# EAGLE library part ATTINY45V-10SU (library ATTINY45V-10SU)
ATTINY45V-10SU, 8 bit AVR Microcontroller 10MHz 4kb Flash, 256B RAM, I2C SPI 8-Pin SOIC Source: Datasheet <https://datasheet.datasheetarchive.com/originals/distributors/Datasheets_SAMA/b7d776087f3438c2ffab22c1216558b5.pdf>
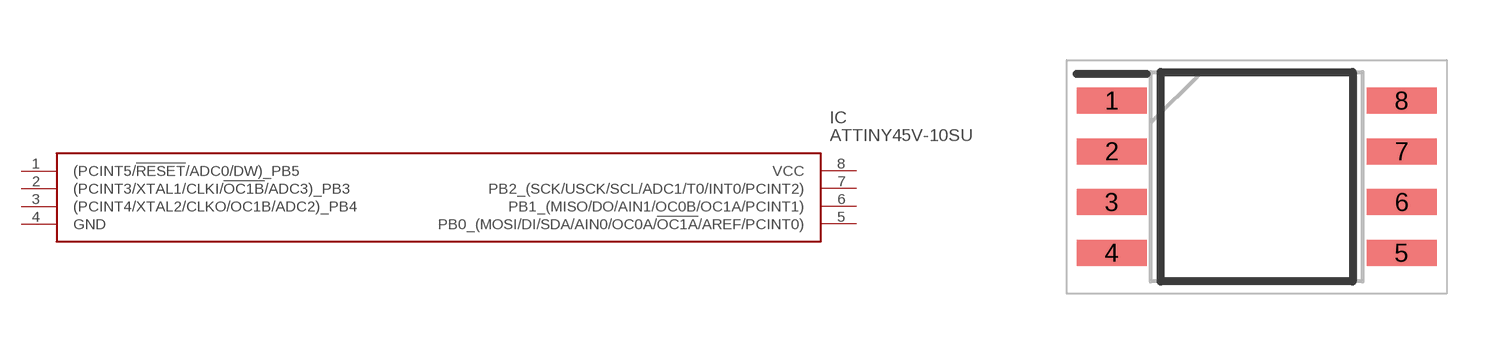
[diagram p0: symbol with the pads of SOIC127P798X216-8N; footprint SOIC127P798X216-8N]

Designator prefix IC

## ATTINY45V-10SU (Arrow_Part_Number: ATTINY45V-10SU; Arrow_Price-Stock: https://www.arrow.com/en/products/attiny45v-10su/microchip-technology?region=nac; Description: ATTINY45V-10SU, 8 bit AVR Microcontroller 10MHz 4kb Flash, 256B RAM, I2C SPI 8-Pin SOIC; Height: 2.16mm; Manufacturer_Name: Microchip; Manufacturer_Part_Number: ATTINY45V-10SU; Mouser_Part_Number: 556-ATTINY45V10SU; Mouser_Price-Stock: https://www.mouser.co.uk/ProductDetail/Microchip-Technology-Atmel/ATTINY45V-10SU?qs=8jWQYweyg6OOnq9%252Bf7uuWA%3D%3D)  [SOIC127P798X216-8N]
1  (PCINT5/!RESET!/ADC0/DW)_PB5
2  (PCINT3/XTAL1/CLKI/!OC1B!/ADC3)_PB3
3  (PCINT4/XTAL2/CLKO/OC1B/ADC2)_PB4
4  GND
5  PB0_(MOSI/DI/SDA/AIN0/OC0A/!OC1A!/AREF/PCINT0)
6  PB1_(MISO/DO/AIN1/OC0B/OC1A/PCINT1)
7  PB2_(SCK/USCK/SCL/ADC1/T0/INT0/PCINT2)
8  VCC

## Footprint SOIC127P798X216-8N (pad centres in mm)
8S2 - EIAJ SOIC
smd 1.75 x 0.65: 1 -3.625,1.905; 2 -3.625,0.635; 3 -3.625,-0.635; 4 -3.625,-1.905; 5 3.625,-1.905; 6 3.625,-0.635; 7 3.625,0.635; 8 3.625,1.905